# EAGLE library part NTJD4152P (library matriLedWatch)
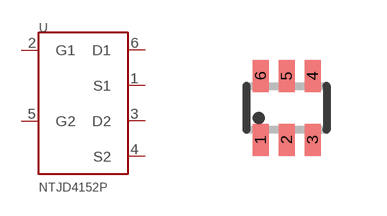
[diagram p8: symbol with the pads of SOT363_PHILIPS; footprint SOT363_PHILIPS]

Designator prefix U

## NTJD4152P  [SOT363_PHILIPS]
1  S1
2  G1
3  D2
4  S2
5  G2
6  D1

## Footprint SOT363_PHILIPS (pad centres in mm)
Small Outline Transistor; 6 leads Philips Semiconductors, SOT363.pdf
smd 0.4 x 0.8: 1 -0.65,-0.8; 2 0,-0.8; 3 0.65,-0.8; 4 0.65,0.8; 5 0,0.8; 6 -0.65,0.8